# EAGLE library part ESQ-108-44-G-S (library CONNECTORs)
Board-To-Board Connector, Vertical, 2.54 mm, 8 Contacts, Receptacle, ESQ Series, Through Hole, 18.67mm height.
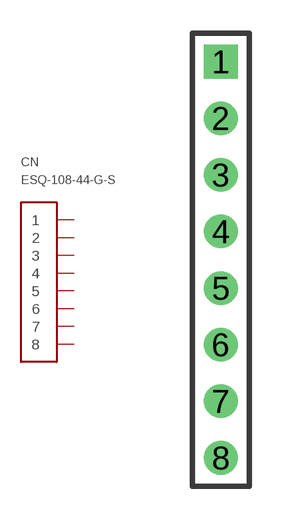
[diagram p32: symbol with the pads of 8PIN_HEADER; footprint 8PIN_HEADER]

Designator prefix CN

## ESQ-108-44-G-S (FARNELL: 1929651; PRICE_PER: 2.1; VALUE: 8PIN FEMALE)  [8PIN_HEADER]
1  1
2  2
3  3
4  4
5  5
6  6
7  7
8  8

## Footprint 8PIN_HEADER (pad centres in mm)
drill 1 pad 1.5 square: 1 0,8.89
drill 1 pad 1.5: 2 0,6.35; 3 0,3.81; 4 0,1.27; 5 0,-1.27; 6 0,-3.81; 7 0,-6.35; 8 0,-8.89